# Altium schematic symbol library Pololu G2 High-Power Motor Driver 24v21.SchLib: 1 symbol
Pins are listed as number, name and electrical type; pins without a type are passive.

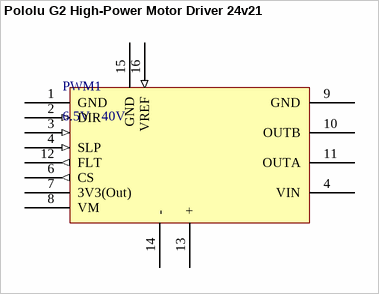
[diagram p0: symbol Pololu G2 High-Power Motor Driver 24v21]

## Pololu G2 High-Power Motor Driver 24v21
designator PWM1, comment 6.5V - 40V
This discrete MOSFET H-bridge motor driver enables bidirectional control of one high-power DC brushed motor. The small 1.3″ × 0.8″ board supports a wide 6.5 V to 40 V voltage range and is efficient enough to deliver a continuous 21 A without a heat sink. Additional features of this second-generation (G2) driver include reverse-voltage protection along with basic current sensing and current limiting functionality.; ComponentLink1Description: Product Info; ComponentLink1URL: https://www.pololu.com/product/2995/specs
footprint Pololu_G2_Driver_24v21 (Pololu G2 High-Power Motor Driver 24v21)
pins: 1 GND (power) "Ground", 2 DIR (in) "Direction Input", 3 PWM (in) "PWM Input", 4 VIN (power) "24V Input", 4 SLP (in) "Inverted Sleep Input", 6 CS (out) "Current Sense", 7 3V3(Out) (power) "regulated 3.3 V output", 8 VM (power) "Reverse Protected Power Output", 9 GND (power) "Ground", 10 OUTB (power) "Motor 24v Out", 11 OUTA (power) "Motor 24v Out", 12 FLT (out) "Fault Indicator (Open Drain)", 13 + (power) "For Power Supply Capacitor", 14 - (power) "For Power Supply Capacitor", 15 GND (power) "Ground", 16 VREF (in) "Reference voltage input"